# EAGLE library part EPF10K130-FPGA484 (library altera)
EPF10K130 FLEX 10K family
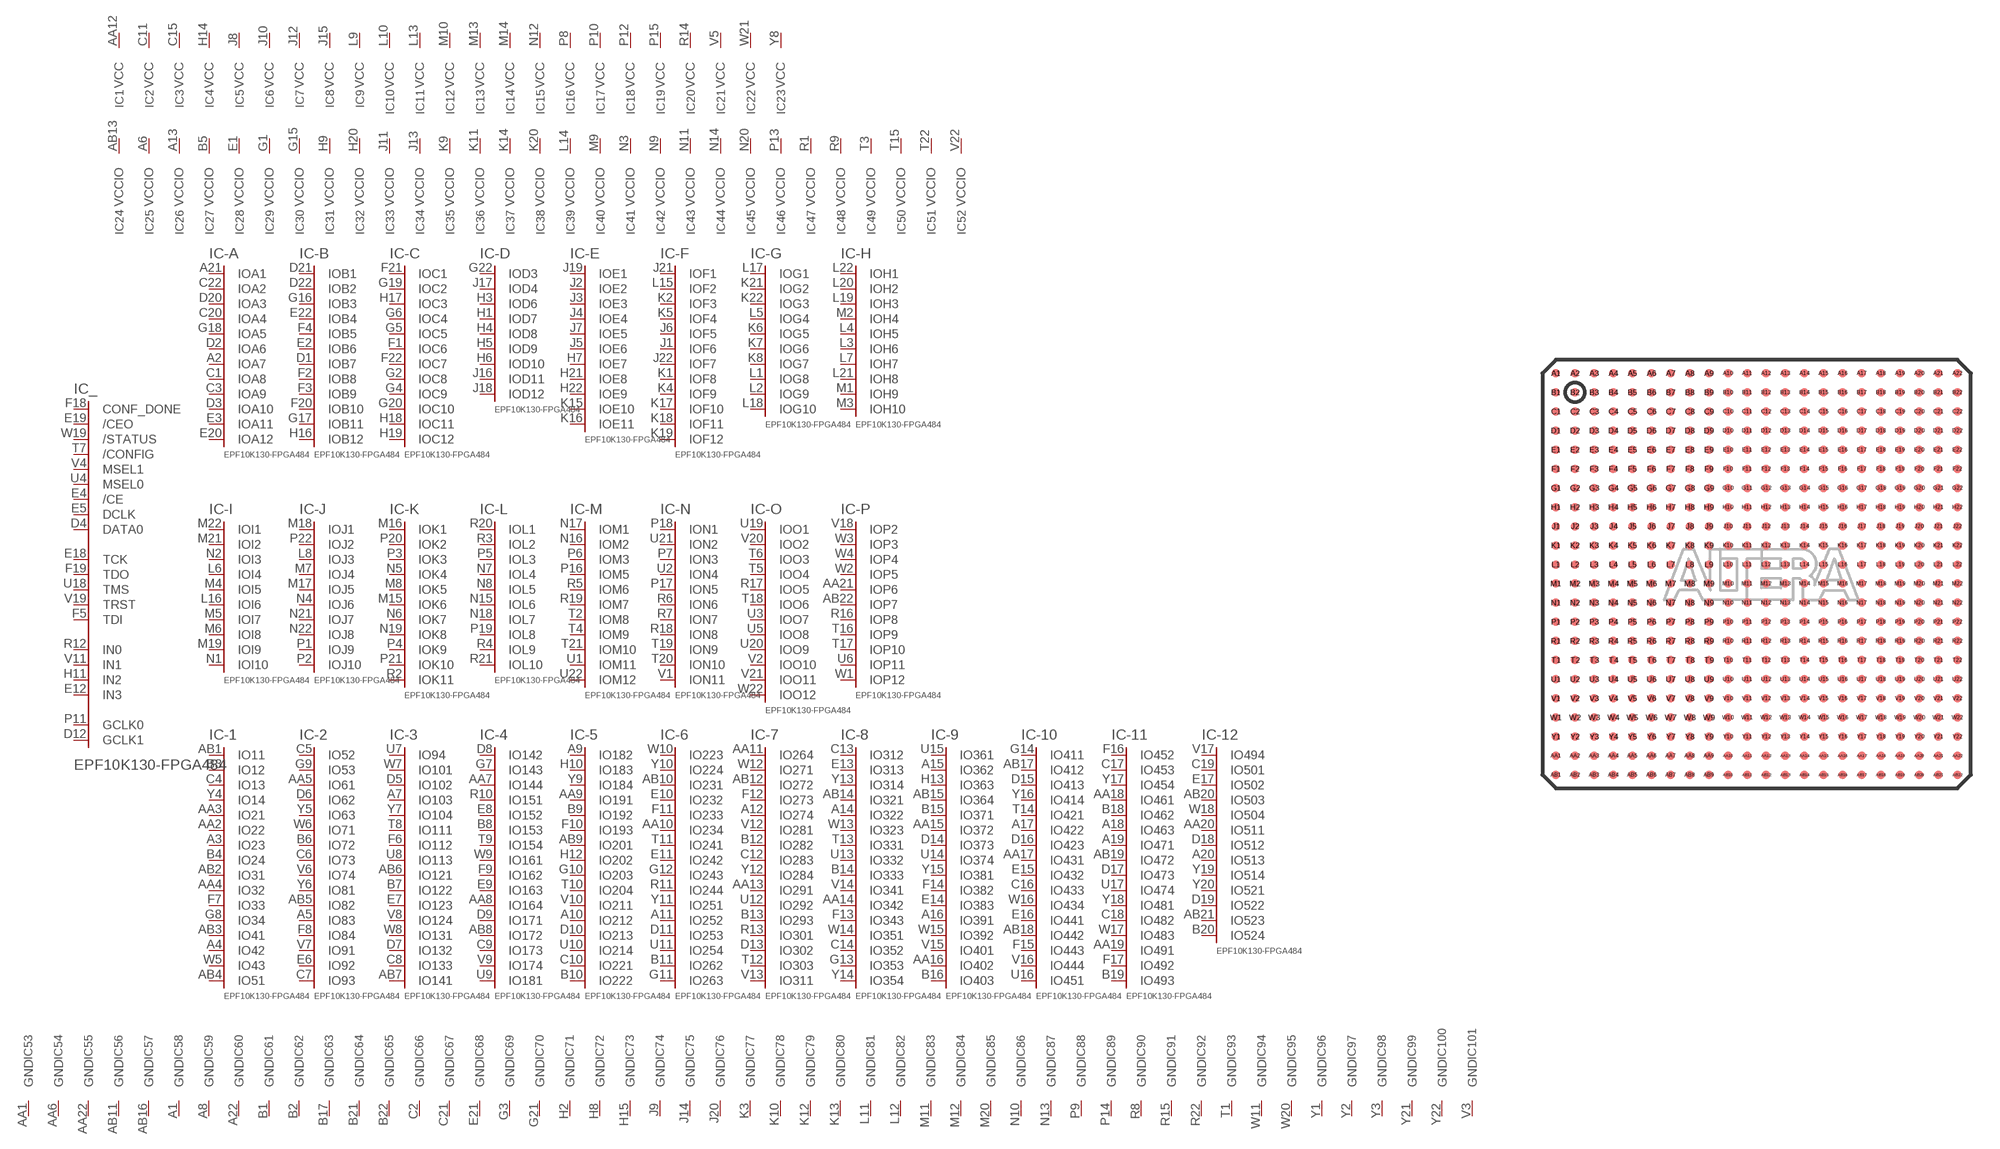
[diagram p11: symbol with the pads of FBGA484; footprint FBGA484]

Designator prefix IC; gates _=130E484C -A=A12-484 -B=B12-484 -C=C12-484 -D=D12-484 -E=E11-484 -F=F12-484 -G=G10-484 -H=H10-484 -I=I10-484 -J=J10-484 -K=K11-484 -L=L10-484 -M=M12-484 -N=N11-484 -O=O12-484 -P=P12-484 -1=51-484 -2=93-484 -3=141-484 -4=181-484 -5=222-484 -6=263-484 -7=311-484 -8=354-484 -9=403-484 -10=451-484 -11=493-484 -12=524-484 1=VCCINT 2=VCCINT 3=VCCINT 4=VCCINT 5=VCCINT 6=VCCINT 7=VCCINT 8=VCCINT 9=VCCINT 10=VCCINT 11=VCCINT 12=VCCINT 13=VCCINT 14=VCCINT 15=VCCINT 16=VCCINT 17=VCCINT 18=VCCINT 19=VCCINT 20=VCCINT 21=VCCINT 22=VCCINT 23=VCCINT 24=VCCIO 25=VCCIO 26=VCCIO 27=VCCIO 28=VCCIO 29=VCCIO 30=VCCIO 31=VCCIO 32=VCCIO 33=VCCIO 34=VCCIO 35=VCCIO 36=VCCIO 37=VCCIO 38=VCCIO 39=VCCIO 40=VCCIO 41=VCCIO 42=VCCIO 43=VCCIO 44=VCCIO 45=VCCIO 46=VCCIO 47=VCCIO 48=VCCIO 49=VCCIO 50=VCCIO 51=VCCIO 52=VCCIO 53=GND 54=GND 55=GND 56=GND 57=GND 58=GND 59=GND 60=GND 61=GND 62=GND 63=GND 64=GND 65=GND 66=GND 67=GND 68=GND 69=GND 70=GND 71=GND 72=GND 73=GND 74=GND 75=GND 76=GND 77=GND 78=GND 79=GND 80=GND 81=GND 82=GND 83=GND 84=GND 85=GND 86=GND 87=GND 88=GND 89=GND 90=GND 91=GND 92=GND 93=GND 94=GND 95=GND 96=GND 97=GND 98=GND 99=GND 100=GND 101=GND

## EPF10K130-FPGA484 (MPN: EPF10K130EFC484-1; OC_FARNELL: unknown; OC_NEWARK: 51R8855)  [FBGA484]
A1  58:GND  pwr
A2  -A:IOA7
A3  -1:IO23
A4  -1:IO42
A5  -2:IO83
A6  25:VCCIO  pwr
A7  -3:IO103
A8  59:GND  pwr
A9  -5:IO182
A10  -5:IO212
A11  -6:IO252
A12  -7:IO274
A13  26:VCCIO  pwr
A14  -8:IO322
A15  -9:IO362
A16  -9:IO391
A17  -10:IO422
A18  -11:IO463
A19  -11:IO471
A20  -12:IO513
A21  -A:IOA1
A22  60:GND  pwr
AA1  53:GND  pwr
AA2  -1:IO22
AA3  -1:IO21
AA4  -1:IO32
AA5  -2:IO61
AA6  54:GND  pwr
AA7  -4:IO144
AA8  -4:IO164
AA9  -5:IO191
AA10  -6:IO234
AA11  -7:IO264
AA12  1:VCC  pwr
AA13  -7:IO291
AA14  -8:IO342
AA15  -9:IO372
AA16  -9:IO402
AA17  -10:IO431
AA18  -11:IO461
AA19  -11:IO491
AA20  -12:IO511
AA21  -P:IOP6
AA22  55:GND  pwr
AB1  -1:IO11
AB2  -1:IO31
AB3  -1:IO41
AB4  -1:IO51
AB5  -2:IO82
AB6  -3:IO121
AB7  -3:IO141
AB8  -4:IO172
AB9  -5:IO201
AB10  -6:IO231
AB11  56:GND  pwr
AB12  -7:IO272
AB13  24:VCCIO  pwr
AB14  -8:IO321
AB15  -9:IO364
AB16  57:GND  pwr
AB17  -10:IO412
AB18  -10:IO442
AB19  -11:IO472
AB20  -12:IO503
AB21  -12:IO523
AB22  -P:IOP7
B1  61:GND  pwr
B2  62:GND  pwr
B3  -1:IO12
B4  -1:IO24
B5  27:VCCIO  pwr
B6  -2:IO72
B7  -3:IO122
B8  -4:IO153
B9  -5:IO192
B10  -5:IO222
B11  -6:IO262
B12  -7:IO282
B13  -7:IO293
B14  -8:IO333
B15  -9:IO371
B16  -9:IO403
B17  63:GND  pwr
B18  -11:IO462
B19  -11:IO493
B20  -12:IO524
B21  64:GND  pwr
B22  65:GND  pwr
C1  -A:IOA8
C2  66:GND  pwr
C3  -A:IOA9
C4  -1:IO13
C5  -2:IO52
C6  -2:IO73
C7  -2:IO93
C8  -3:IO133
C9  -4:IO173
C10  -5:IO221
C11  2:VCC  pwr
C12  -7:IO283
C13  -8:IO312
C14  -8:IO352
C15  3:VCC  pwr
C16  -10:IO433
C17  -11:IO453
C18  -11:IO482
C19  -12:IO501
C20  -A:IOA4
C21  67:GND  pwr
C22  -A:IOA2
D1  -B:IOB7
D2  -A:IOA6
D3  -A:IOA10
D4  _:DATA0  in
D5  -3:IO102
D6  -2:IO62
D7  -3:IO132
D8  -4:IO142
D9  -4:IO171
D10  -5:IO213
D11  -6:IO253
D12  _:GCLK1  in
D13  -7:IO302
D14  -9:IO373
D15  -10:IO413
D16  -10:IO423
D17  -11:IO473
D18  -12:IO512
D19  -12:IO522
D20  -A:IOA3
D21  -B:IOB1
D22  -B:IOB2
E1  28:VCCIO  pwr
E2  -B:IOB6
E3  -A:IOA11
E4  _:/CE  in
E5  _:DCLK  in
E6  -2:IO92
E7  -3:IO123
E8  -4:IO152
E9  -4:IO163
E10  -6:IO232
E11  -6:IO242
E12  _:IN3  in
E13  -8:IO313
E14  -9:IO383
E15  -10:IO432
E16  -10:IO441
E17  -12:IO502
E18  _:TCK
E19  _:/CEO  in
E20  -A:IOA12
E21  68:GND  pwr
E22  -B:IOB4
F1  -C:IOC6
F2  -B:IOB8
F3  -B:IOB9
F4  -B:IOB5
F5  _:TDI
F6  -3:IO112
F7  -1:IO33
F8  -2:IO84
F9  -4:IO162
F10  -5:IO193
F11  -6:IO233
F12  -7:IO273
F13  -8:IO343
F14  -9:IO382
F15  -10:IO443
F16  -11:IO452
F17  -11:IO492
F18  _:CONF_DONE  in
F19  _:TDO
F20  -B:IOB10
F21  -C:IOC1
F22  -C:IOC7
G1  29:VCCIO  pwr
G2  -C:IOC8
G3  69:GND  pwr
G4  -C:IOC9
G5  -C:IOC5
G6  -C:IOC4
G7  -4:IO143
G8  -1:IO34
G9  -2:IO53
G10  -5:IO203
G11  -6:IO263
G12  -6:IO243
G13  -8:IO353
G14  -10:IO411
G15  30:VCCIO  pwr
G16  -B:IOB3
G17  -B:IOB11
G18  -A:IOA5
G19  -C:IOC2
G20  -C:IOC10
G21  70:GND  pwr
G22  -D:IOD3
H1  -D:IOD7
H2  71:GND  pwr
H3  -D:IOD6
H4  -D:IOD8
H5  -D:IOD9
H6  -D:IOD10
H7  -E:IOE7
H8  72:GND  pwr
H9  31:VCCIO  pwr
H10  -5:IO183
H11  _:IN2  in
H12  -5:IO202
H13  -9:IO363
H14  4:VCC  pwr
H15  73:GND  pwr
H16  -B:IOB12
H17  -C:IOC3
H18  -C:IOC11
H19  -C:IOC12
H20  32:VCCIO  pwr
H21  -E:IOE8
H22  -E:IOE9
J1  -F:IOF6
J2  -E:IOE2
J3  -E:IOE3
J4  -E:IOE4
J5  -E:IOE6
J6  -F:IOF5
J7  -E:IOE5
J8  5:VCC  pwr
J9  74:GND  pwr
J10  6:VCC  pwr
J11  33:VCCIO  pwr
J12  7:VCC  pwr
J13  34:VCCIO  pwr
J14  75:GND  pwr
J15  8:VCC  pwr
J16  -D:IOD11
J17  -D:IOD4
J18  -D:IOD12
J19  -E:IOE1
J20  76:GND  pwr
J21  -F:IOF1
J22  -F:IOF7
K1  -F:IOF8
K2  -F:IOF3
K3  77:GND  pwr
K4  -F:IOF9
K5  -F:IOF4
K6  -G:IOG5
K7  -G:IOG6
K8  -G:IOG7
K9  35:VCCIO  pwr
K10  78:GND  pwr
K11  36:VCCIO  pwr
K12  79:GND  pwr
K13  80:GND  pwr
K14  37:VCCIO  pwr
K15  -E:IOE10
K16  -E:IOE11
K17  -F:IOF10
K18  -F:IOF11
K19  -F:IOF12
K20  38:VCCIO  pwr
K21  -G:IOG2
K22  -G:IOG3
L1  -G:IOG8
L2  -G:IOG9
L3  -H:IOH6
L4  -H:IOH5
L5  -G:IOG4
L6  -I:IOI4
L7  -H:IOH7
L8  -J:IOJ3
L9  9:VCC  pwr
L10  10:VCC  pwr
L11  81:GND  pwr
L12  82:GND  pwr
L13  11:VCC  pwr
L14  39:VCCIO  pwr
L15  -F:IOF2
L16  -I:IOI6
L17  -G:IOG1
L18  -G:IOG10
L19  -H:IOH3
L20  -H:IOH2
L21  -H:IOH8
L22  -H:IOH1
M1  -H:IOH9
M2  -H:IOH4
M3  -H:IOH10
M4  -I:IOI5
M5  -I:IOI7
M6  -I:IOI8
M7  -J:IOJ4
M8  -K:IOK5
M9  40:VCCIO  pwr
M10  12:VCC  pwr
M11  83:GND  pwr
M12  84:GND  pwr
M13  13:VCC  pwr
M14  14:VCC  pwr
M15  -K:IOK6
M16  -K:IOK1
M17  -J:IOJ5
M18  -J:IOJ1
M19  -I:IOI9
M20  85:GND  pwr
M21  -I:IOI2
M22  -I:IOI1
N1  -I:IOI10
N2  -I:IOI3
N3  41:VCCIO  pwr
N4  -J:IOJ6
N5  -K:IOK4
N6  -K:IOK7
N7  -L:IOL4
N8  -L:IOL5
N9  42:VCCIO  pwr
N10  86:GND  pwr
N11  43:VCCIO  pwr
N12  15:VCC  pwr
N13  87:GND  pwr
N14  44:VCCIO  pwr
N15  -L:IOL6
N16  -M:IOM2
N17  -M:IOM1
N18  -L:IOL7
N19  -K:IOK8
N20  45:VCCIO  pwr
N21  -J:IOJ7
N22  -J:IOJ8
P1  -J:IOJ9
P2  -J:IOJ10
P3  -K:IOK3
P4  -K:IOK9
P5  -L:IOL3
P6  -M:IOM3
P7  -N:ION3
P8  16:VCC  pwr
P9  88:GND  pwr
P10  17:VCC  pwr
P11  _:GCLK0  in
P12  18:VCC  pwr
P13  46:VCCIO  pwr
P14  89:GND  pwr
P15  19:VCC  pwr
P16  -M:IOM5
P17  -N:ION5
P18  -N:ION1
P19  -L:IOL8
P20  -K:IOK2
P21  -K:IOK10
P22  -J:IOJ2
R1  47:VCCIO  pwr
R2  -K:IOK11
R3  -L:IOL2
R4  -L:IOL9
R5  -M:IOM6
R6  -N:ION6
R7  -N:ION7
R8  90:GND  pwr
R9  48:VCCIO  pwr
R10  -4:IO151
R11  -6:IO244
R12  _:IN0  in
R13  -7:IO301
R14  20:VCC  pwr
R15  91:GND  pwr
R16  -P:IOP8
R17  -O:IOO5
R18  -N:ION8
R19  -M:IOM7
R20  -L:IOL1
R21  -L:IOL10
R22  92:GND  pwr
T1  93:GND  pwr
T2  -M:IOM8
T3  49:VCCIO  pwr
T4  -M:IOM9
T5  -O:IOO4
T6  -O:IOO3
T7  _:/CONFIG  in
T8  -3:IO111
T9  -4:IO154
T10  -5:IO204
T11  -6:IO241
T12  -7:IO303
T13  -8:IO331
T14  -10:IO421
T15  50:VCCIO  pwr
T16  -P:IOP9
T17  -P:IOP10
T18  -O:IOO6
T19  -N:ION9
T20  -N:ION10
T21  -M:IOM10
T22  51:VCCIO  pwr
U1  -M:IOM11
U2  -N:ION4
U3  -O:IOO7
U4  _:MSEL0  in
U5  -O:IOO8
U6  -P:IOP11
U7  -3:IO94
U8  -3:IO113
U9  -4:IO181
U10  -5:IO214
U11  -6:IO254
U12  -7:IO292
U13  -8:IO332
U14  -9:IO374
U15  -9:IO361
U16  -10:IO451
U17  -11:IO474
U18  _:TMS
U19  -O:IOO1
U20  -O:IOO9
U21  -N:ION2
U22  -M:IOM12
V1  -N:ION11
V2  -O:IOO10
V3  101:GND  pwr
V4  _:MSEL1  in
V5  21:VCC  pwr
V6  -2:IO74
V7  -2:IO91
V8  -3:IO124
V9  -4:IO174
V10  -5:IO211
V11  _:IN1  in
V12  -7:IO281
V13  -7:IO311
V14  -8:IO341
V15  -9:IO401
V16  -10:IO444
V17  -12:IO494
V18  -P:IOP2
V19  _:TRST
V20  -O:IOO2
V21  -O:IOO11
V22  52:VCCIO  pwr
W1  -P:IOP12
W2  -P:IOP5
W3  -P:IOP3
W4  -P:IOP4
W5  -1:IO43
W6  -2:IO71
W7  -3:IO101
W8  -3:IO131
W9  -4:IO161
W10  -6:IO223
W11  94:GND  pwr
W12  -7:IO271
W13  -8:IO323
W14  -8:IO351
W15  -9:IO392
W16  -10:IO434
W17  -11:IO483
W18  -12:IO504
W19  _:/STATUS  in
W20  95:GND  pwr
W21  22:VCC  pwr
W22  -O:IOO12
Y1  96:GND  pwr
Y2  97:GND  pwr
Y3  98:GND  pwr
Y4  -1:IO14
Y5  -2:IO63
Y6  -2:IO81
Y7  -3:IO104
Y8  23:VCC  pwr
Y9  -5:IO184
Y10  -6:IO224
Y11  -6:IO251
Y12  -7:IO284
Y13  -8:IO314
Y14  -8:IO354
Y15  -9:IO381
Y16  -10:IO414
Y17  -11:IO454
Y18  -11:IO481
Y19  -12:IO514
Y20  -12:IO521
Y21  99:GND  pwr
Y22  100:GND  pwr

## Footprint FBGA484 (pad centres in mm)
Fine Ball Grid Array
smd 0.45 x 0.45: A1 -10.5,10.5; A2 -9.5,10.5; A3 -8.5,10.5; A4 -7.5,10.5; A5 -6.5,10.5; A6 -5.5,10.5; A7 -4.5,10.5; A8 -3.5,10.5; A9 -2.5,10.5; A10 -1.5,10.5; A11 -0.5,10.5; A12 0.5,10.5; A13 1.5,10.5; A14 2.5,10.5; A15 3.5,10.5; A16 4.5,10.5; A17 5.5,10.5; A18 6.5,10.5; A19 7.5,10.5; A20 8.5,10.5; A21 9.5,10.5; A22 10.5,10.5; AA1 -10.5,-9.5; AA2 -9.5,-9.5; AA3 -8.5,-9.5; AA4 -7.5,-9.5; AA5 -6.5,-9.5; AA6 -5.5,-9.5; AA7 -4.5,-9.5; AA8 -3.5,-9.5; AA9 -2.5,-9.5; AA10 -1.5,-9.5; AA11 -0.5,-9.5; AA12 0.5,-9.5; AA13 1.5,-9.5; AA14 2.5,-9.5; AA15 3.5,-9.5; AA16 4.5,-9.5; AA17 5.5,-9.5; AA18 6.5,-9.5; AA19 7.5,-9.5; AA20 8.5,-9.5; AA21 9.5,-9.5; AA22 10.5,-9.5; AB1 -10.5,-10.5; AB2 -9.5,-10.5; AB3 -8.5,-10.5; AB4 -7.5,-10.5; AB5 -6.5,-10.5; AB6 -5.5,-10.5; AB7 -4.5,-10.5; AB8 -3.5,-10.5; AB9 -2.5,-10.5; AB10 -1.5,-10.5; AB11 -0.5,-10.5; AB12 0.5,-10.5; AB13 1.5,-10.5; AB14 2.5,-10.5; AB15 3.5,-10.5; AB16 4.5,-10.5; AB17 5.5,-10.5; AB18 6.5,-10.5; AB19 7.5,-10.5; AB20 8.5,-10.5; AB21 9.5,-10.5; AB22 10.5,-10.5; B1 -10.5,9.5; B2 -9.5,9.5; B3 -8.5,9.5; B4 -7.5,9.5; B5 -6.5,9.5; B6 -5.5,9.5; B7 -4.5,9.5; B8 -3.5,9.5; B9 -2.5,9.5; B10 -1.5,9.5; B11 -0.5,9.5; B12 0.5,9.5; B13 1.5,9.5; B14 2.5,9.5; B15 3.5,9.5; B16 4.5,9.5; B17 5.5,9.5; B18 6.5,9.5; B19 7.5,9.5; B20 8.5,9.5; B21 9.5,9.5; B22 10.5,9.5; C1 -10.5,8.5; C2 -9.5,8.5; C3 -8.5,8.5; C4 -7.5,8.5; C5 -6.5,8.5; C6 -5.5,8.5; C7 -4.5,8.5; C8 -3.5,8.5; C9 -2.5,8.5; C10 -1.5,8.5; C11 -0.5,8.5; C12 0.5,8.5; C13 1.5,8.5; C14 2.5,8.5; C15 3.5,8.5; C16 4.5,8.5; C17 5.5,8.5; C18 6.5,8.5; C19 7.5,8.5; C20 8.5,8.5; C21 9.5,8.5; C22 10.5,8.5; D1 -10.5,7.5; D2 -9.5,7.5; D3 -8.5,7.5; D4 -7.5,7.5; D5 -6.5,7.5; D6 -5.5,7.5; D7 -4.5,7.5; D8 -3.5,7.5; D9 -2.5,7.5; D10 -1.5,7.5; D11 -0.5,7.5; D12 0.5,7.5; D13 1.5,7.5; D14 2.5,7.5; D15 3.5,7.5; D16 4.5,7.5; D17 5.5,7.5; D18 6.5,7.5; D19 7.5,7.5; D20 8.5,7.5; D21 9.5,7.5; D22 10.5,7.5; E1 -10.5,6.5; E2 -9.5,6.5; E3 -8.5,6.5; E4 -7.5,6.5; E5 -6.5,6.5; E6 -5.5,6.5; E7 -4.5,6.5; E8 -3.5,6.5; E9 -2.5,6.5; E10 -1.5,6.5; E11 -0.5,6.5; E12 0.5,6.5; E13 1.5,6.5; E14 2.5,6.5; E15 3.5,6.5; E16 4.5,6.5; E17 5.5,6.5; E18 6.5,6.5; E19 7.5,6.5; E20 8.5,6.5; E21 9.5,6.5; E22 10.5,6.5; F1 -10.5,5.5; F2 -9.5,5.5; F3 -8.5,5.5; F4 -7.5,5.5; F5 -6.5,5.5; F6 -5.5,5.5; F7 -4.5,5.5; F8 -3.5,5.5; F9 -2.5,5.5; F10 -1.5,5.5; F11 -0.5,5.5; F12 0.5,5.5; F13 1.5,5.5; F14 2.5,5.5; F15 3.5,5.5; F16 4.5,5.5; F17 5.5,5.5; F18 6.5,5.5; F19 7.5,5.5; F20 8.5,5.5; F21 9.5,5.5; F22 10.5,5.5; G1 -10.5,4.5; G2 -9.5,4.5; G3 -8.5,4.5; G4 -7.5,4.5; G5 -6.5,4.5; G6 -5.5,4.5; G7 -4.5,4.5; G8 -3.5,4.5; G9 -2.5,4.5; G10 -1.5,4.5; G11 -0.5,4.5; G12 0.5,4.5; G13 1.5,4.5; G14 2.5,4.5; G15 3.5,4.5; G16 4.5,4.5; G17 5.5,4.5; G18 6.5,4.5; G19 7.5,4.5; G20 8.5,4.5; G21 9.5,4.5; G22 10.5,4.5; H1 -10.5,3.5; H2 -9.5,3.5; H3 -8.5,3.5; H4 -7.5,3.5; H5 -6.5,3.5; H6 -5.5,3.5; H7 -4.5,3.5; H8 -3.5,3.5; H9 -2.5,3.5; H10 -1.5,3.5; H11 -0.5,3.5; H12 0.5,3.5; H13 1.5,3.5; H14 2.5,3.5; H15 3.5,3.5; H16 4.5,3.5; H17 5.5,3.5; H18 6.5,3.5; H19 7.5,3.5; H20 8.5,3.5; H21 9.5,3.5; H22 10.5,3.5; J1 -10.5,2.5; J2 -9.5,2.5; J3 -8.5,2.5; J4 -7.5,2.5; J5 -6.5,2.5; J6 -5.5,2.5; J7 -4.5,2.5; J8 -3.5,2.5; J9 -2.5,2.5; J10 -1.5,2.5; J11 -0.5,2.5; J12 0.5,2.5; J13 1.5,2.5; J14 2.5,2.5; J15 3.5,2.5; J16 4.5,2.5; J17 5.5,2.5; J18 6.5,2.5; J19 7.5,2.5; J20 8.5,2.5; J21 9.5,2.5; J22 10.5,2.5; K1 -10.5,1.5; K2 -9.5,1.5; K3 -8.5,1.5; K4 -7.5,1.5; K5 -6.5,1.5; K6 -5.5,1.5; K7 -4.5,1.5; K8 -3.5,1.5; K9 -2.5,1.5; K10 -1.5,1.5; K11 -0.5,1.5; K12 0.5,1.5; K13 1.5,1.5; K14 2.5,1.5; K15 3.5,1.5; K16 4.5,1.5; K17 5.5,1.5; K18 6.5,1.5; K19 7.5,1.5; K20 8.5,1.5; K21 9.5,1.5; K22 10.5,1.5; L1 -10.5,0.5; L2 -9.5,0.5; L3 -8.5,0.5; L4 -7.5,0.5; L5 -6.5,0.5; L6 -5.5,0.5; L7 -4.5,0.5; L8 -3.5,0.5; L9 -2.5,0.5; L10 -1.5,0.5; L11 -0.5,0.5; L12 0.5,0.5; L13 1.5,0.5; L14 2.5,0.5; L15 3.5,0.5; L16 4.5,0.5; L17 5.5,0.5; L18 6.5,0.5; L19 7.5,0.5; L20 8.5,0.5; L21 9.5,0.5; L22 10.5,0.5; M1 -10.5,-0.5; M2 -9.5,-0.5; M3 -8.5,-0.5; M4 -7.5,-0.5; M5 -6.5,-0.5; M6 -5.5,-0.5; M7 -4.5,-0.5; M8 -3.5,-0.5; M9 -2.5,-0.5; M10 -1.5,-0.5; M11 -0.5,-0.5; M12 0.5,-0.5; M13 1.5,-0.5; M14 2.5,-0.5; M15 3.5,-0.5; M16 4.5,-0.5; M17 5.5,-0.5; M18 6.5,-0.5; M19 7.5,-0.5; M20 8.5,-0.5; M21 9.5,-0.5; M22 10.5,-0.5; N1 -10.5,-1.5; N2 -9.5,-1.5; N3 -8.5,-1.5; N4 -7.5,-1.5; N5 -6.5,-1.5; N6 -5.5,-1.5; N7 -4.5,-1.5; N8 -3.5,-1.5; N9 -2.5,-1.5; N10 -1.5,-1.5; N11 -0.5,-1.5; N12 0.5,-1.5; N13 1.5,-1.5; N14 2.5,-1.5; N15 3.5,-1.5; N16 4.5,-1.5; N17 5.5,-1.5; N18 6.5,-1.5; N19 7.5,-1.5; N20 8.5,-1.5; N21 9.5,-1.5; N22 10.5,-1.5; P1 -10.5,-2.5; P2 -9.5,-2.5; P3 -8.5,-2.5; P4 -7.5,-2.5; P5 -6.5,-2.5; P6 -5.5,-2.5; P7 -4.5,-2.5; P8 -3.5,-2.5; P9 -2.5,-2.5; P10 -1.5,-2.5; P11 -0.5,-2.5; P12 0.5,-2.5; P13 1.5,-2.5; P14 2.5,-2.5; P15 3.5,-2.5; P16 4.5,-2.5; P17 5.5,-2.5; P18 6.5,-2.5; P19 7.5,-2.5; P20 8.5,-2.5; P21 9.5,-2.5; P22 10.5,-2.5; R1 -10.5,-3.5; R2 -9.5,-3.5; R3 -8.5,-3.5; R4 -7.5,-3.5; R5 -6.5,-3.5; R6 -5.5,-3.5; R7 -4.5,-3.5; R8 -3.5,-3.5; R9 -2.5,-3.5; R10 -1.5,-3.5; R11 -0.5,-3.5; R12 0.5,-3.5; R13 1.5,-3.5; R14 2.5,-3.5; R15 3.5,-3.5; R16 4.5,-3.5; R17 5.5,-3.5; R18 6.5,-3.5; R19 7.5,-3.5; R20 8.5,-3.5; R21 9.5,-3.5; R22 10.5,-3.5; T1 -10.5,-4.5; T2 -9.5,-4.5; T3 -8.5,-4.5; T4 -7.5,-4.5; T5 -6.5,-4.5; T6 -5.5,-4.5; T7 -4.5,-4.5; T8 -3.5,-4.5; T9 -2.5,-4.5; T10 -1.5,-4.5; T11 -0.5,-4.5; T12 0.5,-4.5; T13 1.5,-4.5; T14 2.5,-4.5; T15 3.5,-4.5; T16 4.5,-4.5; T17 5.5,-4.5; T18 6.5,-4.5; T19 7.5,-4.5; T20 8.5,-4.5; T21 9.5,-4.5; T22 10.5,-4.5; U1 -10.5,-5.5; U2 -9.5,-5.5; U3 -8.5,-5.5; U4 -7.5,-5.5; U5 -6.5,-5.5; U6 -5.5,-5.5; U7 -4.5,-5.5; U8 -3.5,-5.5; U9 -2.5,-5.5; U10 -1.5,-5.5; U11 -0.5,-5.5; U12 0.5,-5.5; U13 1.5,-5.5; U14 2.5,-5.5; U15 3.5,-5.5; U16 4.5,-5.5; U17 5.5,-5.5; U18 6.5,-5.5; U19 7.5,-5.5; U20 8.5,-5.5; U21 9.5,-5.5; U22 10.5,-5.5; V1 -10.5,-6.5; V2 -9.5,-6.5; V3 -8.5,-6.5; V4 -7.5,-6.5; V5 -6.5,-6.5; V6 -5.5,-6.5; V7 -4.5,-6.5; V8 -3.5,-6.5; V9 -2.5,-6.5; V10 -1.5,-6.5; V11 -0.5,-6.5; V12 0.5,-6.5; V13 1.5,-6.5; V14 2.5,-6.5; V15 3.5,-6.5; V16 4.5,-6.5; V17 5.5,-6.5; V18 6.5,-6.5; V19 7.5,-6.5; V20 8.5,-6.5; V21 9.5,-6.5; V22 10.5,-6.5; W1 -10.5,-7.5; W2 -9.5,-7.5; W3 -8.5,-7.5; W4 -7.5,-7.5; W5 -6.5,-7.5; W6 -5.5,-7.5; W7 -4.5,-7.5; W8 -3.5,-7.5; W9 -2.5,-7.5; W10 -1.5,-7.5; W11 -0.5,-7.5; W12 0.5,-7.5; W13 1.5,-7.5; W14 2.5,-7.5; W15 3.5,-7.5; W16 4.5,-7.5; W17 5.5,-7.5; W18 6.5,-7.5; W19 7.5,-7.5; W20 8.5,-7.5; W21 9.5,-7.5; W22 10.5,-7.5; Y1 -10.5,-8.5; Y2 -9.5,-8.5; Y3 -8.5,-8.5; Y4 -7.5,-8.5; Y5 -6.5,-8.5; Y6 -5.5,-8.5; Y7 -4.5,-8.5; Y8 -3.5,-8.5; Y9 -2.5,-8.5; Y10 -1.5,-8.5; Y11 -0.5,-8.5; Y12 0.5,-8.5; Y13 1.5,-8.5; Y14 2.5,-8.5; Y15 3.5,-8.5; Y16 4.5,-8.5; Y17 5.5,-8.5; Y18 6.5,-8.5; Y19 7.5,-8.5; Y20 8.5,-8.5; Y21 9.5,-8.5; Y22 10.5,-8.5